# EAGLE library part F1C*00 (library allwinner)
The F1C100s/F1C200s processor represents Allwinner’s latest achievement in mobile applications processors. The processor targets the needs of video boombox markets. The F1C100s/F1C200s is based on the ARM9 CPU architecture with a high degree of functional integration, and supports Full HD video playback, including H.264,H.263,MPEG1/2/4 decoder. Integrated audio codec and I2S/PCM interface provide end users with a good audio experience. TV-IN interface enables video input by connecting to video devices such as camera, and TV-OUT interface enables video output by connecting to TV devices. To reduce the BOM costs, the F1C100s/F1C200s built-in DDR1 memory , and it is packed with general-purpose peripherals such as USB OTG, UART, SPI, TWI, TP, SD/MMC, CSI, etc. The F1C100s/F1C200s outperforms competitors in terms of its powerful performance, low power consumption, and flexible scalability.
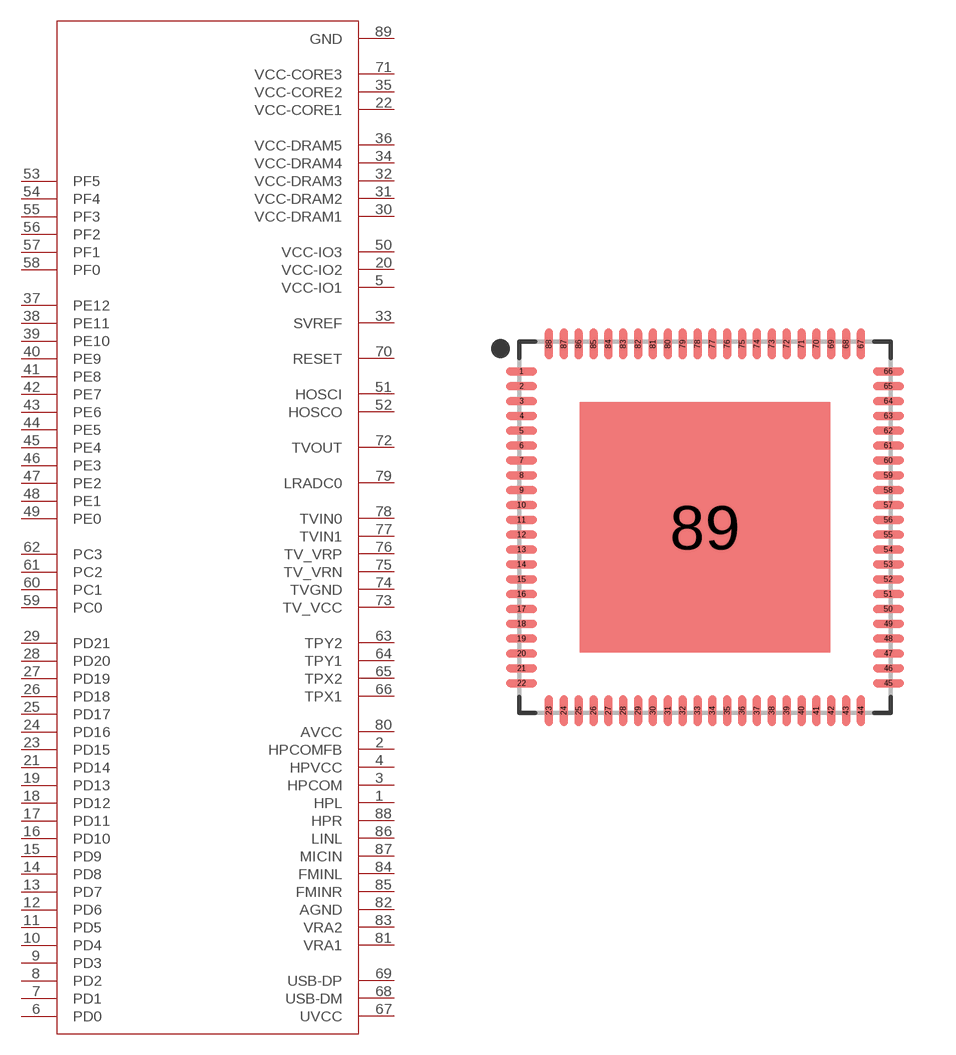
[diagram p0: symbol with the pads of QFN88; footprint QFN88]

Designator prefix IC

## F1C100 (DRAM: 32MB), F1C200 (DRAM: 64MB)  [QFN88]
1  HPL
2  HPCOMFB
3  HPCOM
4  HPVCC
5  VCC-IO1
6  PD0
7  PD1
8  PD2
9  PD3
10  PD4
11  PD5
12  PD6
13  PD7
14  PD8
15  PD9
16  PD10
17  PD11
18  PD12
19  PD13
20  VCC-IO2
21  PD14
22  VCC-CORE1
23  PD15
24  PD16
25  PD17
26  PD18
27  PD19
28  PD20
29  PD21
30  VCC-DRAM1
31  VCC-DRAM2
32  VCC-DRAM3
33  SVREF
34  VCC-DRAM4
35  VCC-CORE2
36  VCC-DRAM5
37  PE12
38  PE11
39  PE10
40  PE9
41  PE8
42  PE7
43  PE6
44  PE5
45  PE4
46  PE3
47  PE2
48  PE1
49  PE0
50  VCC-IO3
51  HOSCI
52  HOSCO
53  PF5
54  PF4
55  PF3
56  PF2
57  PF1
58  PF0
59  PC0
60  PC1
61  PC2
62  PC3
63  TPY2
64  TPY1
65  TPX2
66  TPX1
67  UVCC
68  USB-DM
69  USB-DP
70  RESET
71  VCC-CORE3
72  TVOUT
73  TV_VCC
74  TVGND
75  TV_VRN
76  TV_VRP
77  TVIN1
78  TVIN0
79  LRADC0
80  AVCC
81  VRA1
82  AGND
83  VRA2
84  FMINL
85  FMINR
86  LINL
87  MICIN
88  HPR
89  GND

## Footprint QFN88 (pad centres in mm)
QFN88, 0.40mm pitch, 10.00 x 10.00 x 1.00mm body, 6.75 x 6.75mm thermal pad
smd 0.837 x 0.22: 1 -4.937,4.2; 2 -4.937,3.8; 3 -4.937,3.4; 4 -4.937,3; 5 -4.937,2.6; 6 -4.937,2.2; 7 -4.937,1.8; 8 -4.937,1.4; 9 -4.937,1; 10 -4.937,0.6; 11 -4.937,0.2; 12 -4.937,-0.2; 13 -4.937,-0.6; 14 -4.937,-1; 15 -4.937,-1.4; 16 -4.937,-1.8; 17 -4.937,-2.2; 18 -4.937,-2.6; 19 -4.937,-3; 20 -4.937,-3.4; 21 -4.937,-3.8; 22 -4.937,-4.2; 45 4.937,-4.2; 46 4.937,-3.8; 47 4.937,-3.4; 48 4.937,-3; 49 4.937,-2.6; 50 4.937,-2.2; 51 4.937,-1.8; 52 4.937,-1.4; 53 4.937,-1; 54 4.937,-0.6; 55 4.937,-0.2; 56 4.937,0.2; 57 4.937,0.6; 58 4.937,1; 59 4.937,1.4; 60 4.937,1.8; 61 4.937,2.2; 62 4.937,2.6; 63 4.937,3; 64 4.937,3.4; 65 4.937,3.8; 66 4.937,4.2
smd 0.22 x 0.837: 23 -4.2,-4.937; 24 -3.8,-4.937; 25 -3.4,-4.937; 26 -3,-4.937; 27 -2.6,-4.937; 28 -2.2,-4.937; 29 -1.8,-4.937; 30 -1.4,-4.937; 31 -1,-4.937; 32 -0.6,-4.937; 33 -0.2,-4.937; 34 0.2,-4.937; 35 0.6,-4.937; 36 1,-4.937; 37 1.4,-4.937; 38 1.8,-4.937; 39 2.2,-4.937; 40 2.6,-4.937; 41 3,-4.937; 42 3.4,-4.937; 43 3.8,-4.937; 44 4.2,-4.937; 67 4.2,4.937; 68 3.8,4.937; 69 3.4,4.937; 70 3,4.937; 71 2.6,4.937; 72 2.2,4.937; 73 1.8,4.937; 74 1.4,4.937; 75 1,4.937; 76 0.6,4.937; 77 0.2,4.937; 78 -0.2,4.937; 79 -0.6,4.937; 80 -1,4.937; 81 -1.4,4.937; 82 -1.8,4.937; 83 -2.2,4.937; 84 -2.6,4.937; 85 -3,4.937; 86 -3.4,4.937; 87 -3.8,4.937; 88 -4.2,4.937
smd 6.75 x 6.75: 89 0,0